# Altium integrated library MMSZ5226B-7-F.IntLib: 1 symbol
Pins are listed as number, name and electrical type; pins without a type are passive.

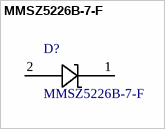
[diagram p0: symbol MMSZ5226B-7-F]

## MMSZ5226B-7-F
designator D?
Diode Zener Single 3.3V 5% 500mW Automotive 2-Pin SOD-123 T/R; MF: Diodes Inc.; MP: MMSZ5226B-7-F; SnapEDA_Link: https://www.snapeda.com/parts/MMSZ5226B-7-F/Diodes%20Inc./view-part/?ref=snap; Digi-Key_Purchase_URL: https://www.digikey.com/product-detail/en/diodes-incorporated/MMSZ5226B-7-F/MMSZ5226B-FDICT-ND/717905?utm_source=snapeda&utm_medium=aggregator&utm_campaign=symbol; Digi-Key_Part_Number: MMSZ5226B-FDICT-ND; Package: SOD-123 Diodes Inc.; Value: *
footprint *SOD3715X135L32X57N
pins: 1 C, 2 A